# Altium schematic symbol library RBB_MCU7_V2.2.SCHLIB: 33 symbols
Pins are listed as number, name and electrical type; pins without a type are passive.

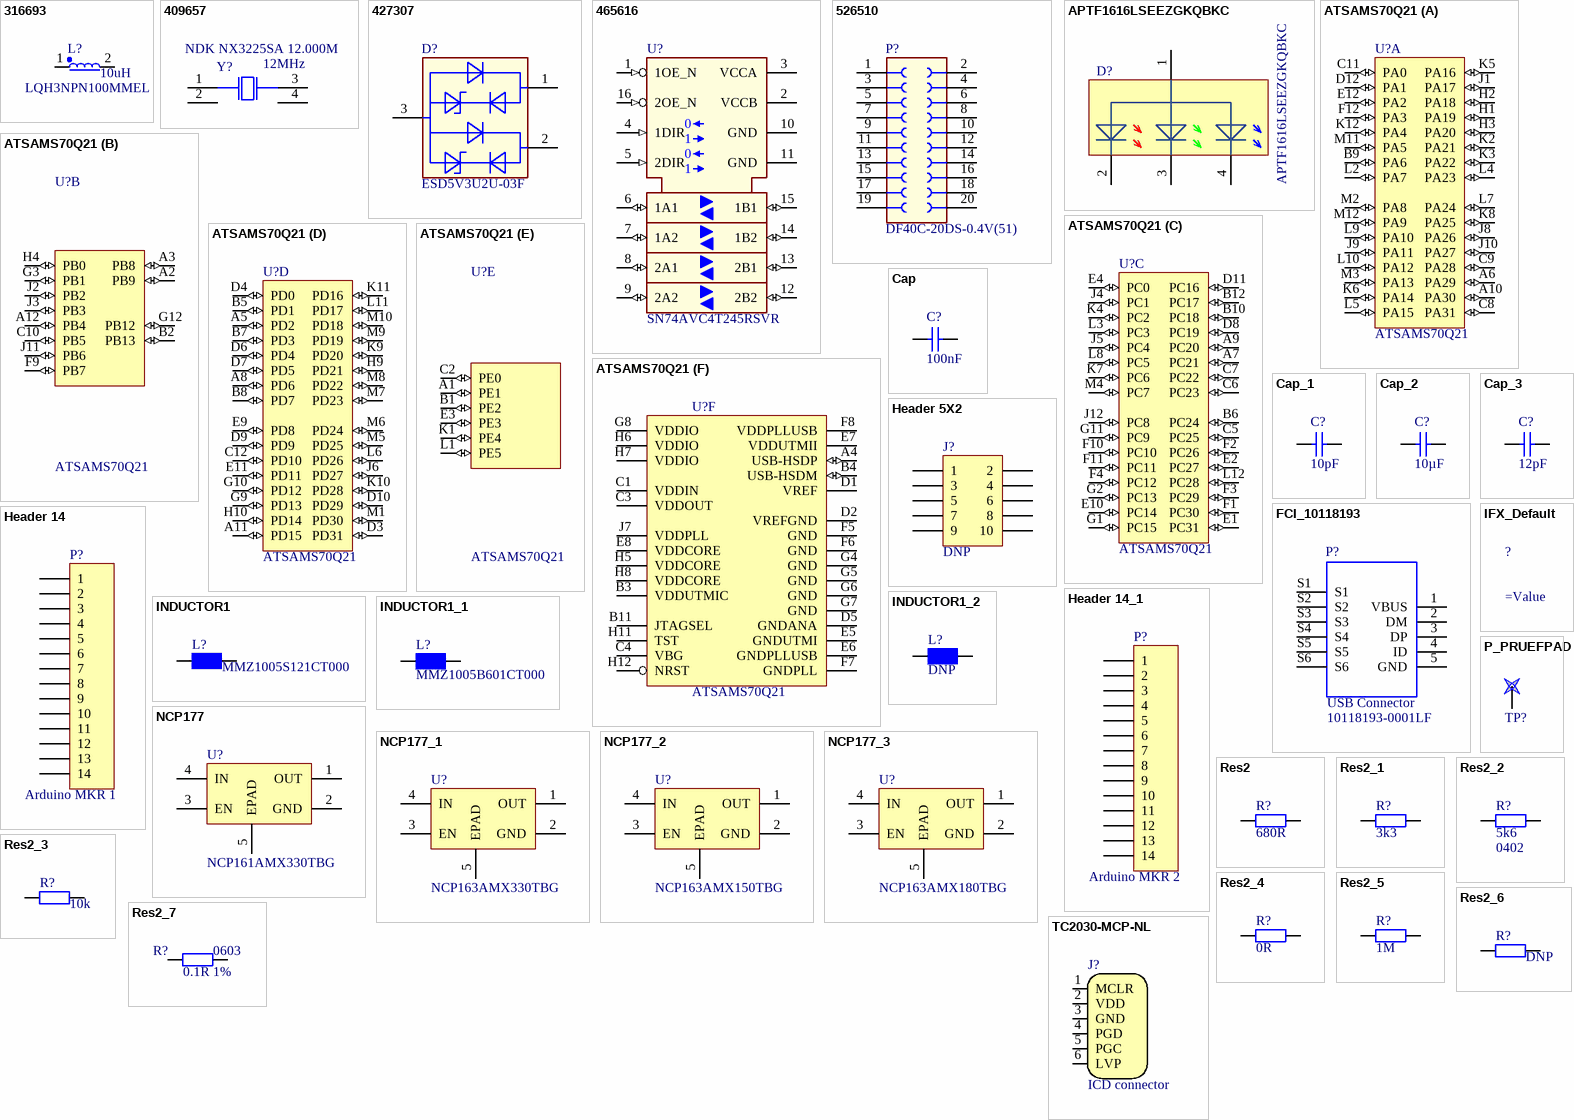
[diagram p0: symbols 316693 to TC2030-MCP-NL]

## 316693
designator L?, comment LQH3NPN100MMEL  value 10uH
for Power Line; Multiple Parts: No; Legacy PartNumber: IND00700877; Manufacturer: muRata; Manufacturer Order Number: LQH3NPN100MMR; Manufacturer Component Status: Active; Symbol Type: Inductor; Single; Standard; Polarized; Core; 2 Pins; Alternate View: Yes; Article Number: 316693; Version Number: V01; Tolerance Neg: 20%; Combined Parameters: Tol.:-20%/+20%;Rdc:252mR;Idc:1.15A;Fres:30MHz; Style: Single; Voltage DC (max): na; Legacy DeviceID: IND00700877; Part Type: Inductor; Tolerance Pos: 20%; Type: LQH3NPN100MMEL; Technology: Wire Wound; Temperature min: -40; Temperature max: 85; Temperature Range: Industrial; RoHS Compliant: Y; Automotive Qualified: No; PackageReference: 3030 (1212); ComponentLink1Description: Vendor WebSite; ComponentLink1URL: http://www.murata.com; ComponentLink2Description: Datasheet; ComponentLink2URL: http://webnetprod.muc.infineon.com/pcbportal_prod/WorkFlows/AltiumComponent/StandardDocumentation?Versionid=316694; Supplier 1: Farnell; Supplier 2: DigiKey; Supplier 3: Mouser; PLMStatus: Active; Second Source allowed: Yes; Package Description: Inductor,Chip;3.00mm L X 3.00mm W X 1.50mm H
footprint INDC3030X150N_LQH3NP_MR
pins: 1, 2
3 alternate drawings of the same symbol

## 409657
designator Y?, comment 12MHz  Legacy DeviceID: NDK NX3225SA 12.000M
SMD Crystal Unit for Automotive Application, 12.000MHz; Legacy PartNumber: IC02600619; Manufacturer: Nihon Dempa Kogyo; Manufacturer Order Number: NX3225SA-12.000M-STD-CRS-2; Manufacturer Component Status: Active; Symbol type: Standard Crystal Symbol, 4 Pins; Article Number: 409657; Version Number: V01; Tolerance Neg: 50%; Combined Parameters: Standard Standard Crystal;Tol.:-50%/+50%; Style: Standard; Automotive Qualified: AEC Q200; ComponentStatus: Released; Second Source allowed: Yes; Part Type: Clock; Value: 12MHz; Tolerance Pos: 50%; Type: Crystal; Application: Standard; Temperature min: -40; Temperature max: 125; Temperature Range: Automotive; RoHS Compliant: Y; PackageReference: SMD 3.2 x 2.5 x 0.6mm; ComponentLink1Description: Vendor WebSite; ComponentLink1URL: http://www.ndk.com/en/; ComponentLink2Description: Datasheet; ComponentLink2URL: http://webnetprod.muc.infineon.com/pcbportal_prod/WorkFlows/AltiumComponent/StandardDocumentation?Versionid=409658; Supplier 1: Farnell; Supplier 2: DigiKey; Supplier Part Number 2: 644-1128-2-ND; Supplier 3: Mouser
footprint XTAL-SMD-NX3225SA
pins: 1, 2 (power) "Ground", 3, 4 (power) "Ground"

## 427307
designator D?, comment ESD5V3U2U-03F
Ultra-Low ESD / Transient Protection Diode, Uni-Directional, VRWM 5.3V; Legacy PartNumber: IFX01400970; Manufacturer: Infineon Technologies; Manufacturer Component Status: Active; Symbol Type: 2 Lines Uni-directional Transient Voltage Suppressor Diode, 3 Pins; Alternate View: No; Article Number: 427307; Version Number: V01; Combined Parameters: Vf:-;If:-;Ur:5.3V;Ir:50nA;Pmax:-; Type: TVS Diode; Style: Single; ComponentStatus: Released; Second Source allowed: Yes; Multiple Part: No; Legacy DeviceID: IFX01400970; Part Type: Diode; Manufacturer Order Number: ESD5V3U2U-03F; Value: ESD5V3U2U-03F; Application: Protection; Temperature min: -40; Temperature max: 125; Temperature Range: Automotive; RoHS Compliant: Y; Automotive Qualified: No; PackageReference: TSFP-3-1; ComponentLink1Description: Vendor WebSite; ComponentLink1URL: https://www.infineon.com/; ComponentLink2Description: Datasheet; ComponentLink2URL: http://webnetprod.muc.infineon.com/pcbportal_prod/WorkFlows/AltiumComponent/StandardDocumentation?Versionid=427308; Supplier 1: Farnell; Supplier 2: DigiKey; Supplier Part Number 2: ESD5V3U2U03FH6327XTSA1TR-ND; Supplier 3: Mouser; Supplier Part Number 3: 726-5V3U2U03FH6327XT
footprint SOTFL40P120X59-3N-V
footprint SOTFL40P120X59-3N
pins: 1, 2, 3

## 465616
designator U?, comment SN74AVC4T245RSVR
Dual-Bit Bus Transceiver with Configurable Voltage Translation and 3-State Output; Multiple Parts: No; Legacy PartNumber: IC02601282; Manufacturer: Texas Instruments; Manufacturer Component Status: Active; Article Number: 465616; Version Number: V01; Legacy DeviceID: TI_SN74AVC4T245RSVR; Combined Parameters: Industrial Interface/Transceiver;Vdc min/max:1.2V/3.6V;Iout:50mA;Fmax:100MHz; Second Source allowed: Yes; Voltage DC (max): na; Symbol Type: Dual-Bit Bus Transceiver with Configurable Voltage Translation and 3-State Output; Alternate View: No; Part Type: Integrated Circuit; Manufacturer Order Number: SN74AVC4T245RSVR; Value: SN74AVC4T245RSVR; Type: Interface/Transceiver; Application: Industrial; Temperature min: -40; Temperature max: 85; Temperature Range: Industrial; RoHS Compliant: Y; Automotive Qualified: No; PackageReference: UQFN-16 (RSV); ComponentLink1Description: Vendor WebSite; ComponentLink1URL: http://www.ti.com; ComponentLink2Description: Datasheet; ComponentLink2URL: http://webnetprod.muc.infineon.com/pcbportal_prod/WorkFlows/AltiumComponent/StandardDocumentation?Versionid=465617; Supplier 1: Farnell; Supplier Part Number 1: 2436915; Supplier 2: DigiKey; Supplier Part Number 2: 296-24366-2-ND; Supplier 3: Mouser; Supplier Part Number 3: 595-SN74AVC4T245RSVR; PLMStatus: Active; Package Description: UQFN, 16 Pins, 2.6mm L X 1.8mm W X 0.55mm H body
footprint SN74AVC4T245RSVR-1
footprint SN74AVC4T245RSVR
footprint SN74AVC4T245RSVR-Hatvan
pins: 1 1OE_N (in) "3-state output-mode enables. Pull OE high to place ‘1’ outputs in 3-state mode. Referenced to VCCA", 2 VCCB (power) "B-port power supply voltage. 1.2 V = VCCB = 3.6 V", 3 VCCA (power) "A-port power supply voltage. 1.2 V = VCCA = 3.6 V", 4 1DIR (in) "Direction-control input for ‘1’ ports", 5 2DIR (in) "Direction-control input for ‘2’ ports", 6 1A1 (io) "Input/output 1A1. Referenced to VCCA", 7 1A2 (io) "Input/output 1A2. Referenced to VCCA", 8 2A1 (io) "Input/output 2A1. Referenced to VCCA", 9 2A2 (io) "Input/output 2A2. Referenced to VCCA", 10 GND (power) "Ground", 11 GND (power) "Ground", 12 2B2 (io) "Input/output 2B2. Referenced to VCCB", 13 2B1 (io) "Input/output 2B1. Referenced to VCCB", 14 1B2 (io) "Input/output 1B2. Referenced to VCCB", 15 1B1 (io) "Input/output 1B1. Referenced to VCCB", 16 2OE_N (in) "3-state output-mode enables. Pull OE high to place ‘2’ outputs in 3-state mode. Referenced to VCCA"
text: 0

## 526510
designator P?, comment DF40C-20DS-0.4V(51)
Board-to-FPC Connector, 0.4mm pitch, Female; Manufacturer: Hirose Connectors; Manufacturer Component Status: Active; Symbol type: Socket 10X2 pins; Article Number: 526510; Version Number: V01; Legacy DeviceID: HRS_DF40C-20DS-0.4V(51); Combined Parameters: Board-to-Board Socket (female);10x2;Mounting:SMT;Orient:0° (vertical);Shielded:No; QuickPick: 0° (vertical) / Board-to-Board; Style: FFC/FPC; Automotive Qualified: No; ComponentStatus: Released; Second Source allowed: Yes; Voltage DC (max): na; Part Type: Connector; Manufacturer Order Number: DF40C-20DS-0.4V(51); Value: DF40C-20DS-0.4V(51); Type: Board-to-Board; Temperature min: -35; Temperature max: 85; Temperature Range: Military; ROHS Compliant: Y; PackageReference: SMD; ComponentLink1Description: Vendor WebSite; ComponentLink1URL: http://www.hirose.com/; ComponentLink2Description: Datasheet; ComponentLink2URL: http://webnetprod.muc.infineon.com/PCBPortal_Prod/WorkFlows/AltiumComponent/StandardDocumentation?Versionid=526511; Supplier 1: Farnell; Supplier Part Number 1: 2427683; Supplier 2: DigiKey; Supplier Part Number 2: H11619CT-ND; Supplier 3: Mouser; Supplier Part Number 3: 798-DF40C20DS0.4V51; PLMStatus: Active; Package Description: Connector, SMD, 0.4 mm pitch, 20 pin, 6.60 mm L X 2.88 mm W X 1.60 mm H body
footprint CON-F-SMD-DF40C-20DS-0.4V(51) (Connector, SMD, 0.4 mm pitch, 20 pin, 6.60 mm L X 2.88 mm W X 1.60 mm H body)
pins: 1, 2, 3, 4, 5, 6, 7, 8, 9, 10, 11, 12, 13, 14, 15, 16, 17, 18, 19, 20

## APTF1616LSEEZGKQBKC
designator D?
Kingbright - APTF1616LSEEZGKQBKC
footprint APTF1616LSEEZGKQBKC (Kingbright - APTF1616LSEEZGKQBKC)
pins: 1, 2, 3, 4

## ATSAMS70Q21
designator U?
Value: ATSAMS70Q21
footprint LFBGA144 (BGA, 144-Leads, Body 10x10mm, Pitch 0.8mm)
footprint UFBGA144 (BGA, 144-Leads, Body 6x6mm, Pitch 0.4mm)
part A pins: A6 PA29 (io), A10 PA30 (io), B9 PA6 (io), C8 PA31 (io), C9 PA28 (io), C11 PA0 (io), D12 PA1 (io), E12 PA2 (io), F12 PA3 (io), H1 PA19 (io), H2 PA18 (io), H3 PA20 (io), J1 PA17 (io), J8 PA26 (io), J9 PA11 (io), J10 PA27 (io), K2 PA21 (io), K3 PA22 (io), K5 PA16 (io), K6 PA14 (io), K8 PA25 (io), K12 PA4 (io), L2 PA7 (io), L4 PA23 (io), L5 PA15 (io), L7 PA24 (io), L9 PA10 (io), L10 PA12 (io), M2 PA8 (io), M3 PA13 (io), M11 PA5 (io), M12 PA9 (io)
part B pins: A2 PB9 (io), A3 PB8 (io), A12 PB4 (io), B2 PB13 (io), C10 PB5 (io), F9 PB7 (io), G3 PB1 (io), G12 PB12 (io), H4 PB0 (io), J2 PB2 (io), J3 PB3 (io), J11 PB6 (io)
part C pins: A7 PC21 (io), A9 PC20 (io), B6 PC24 (io), B10 PC18 (io), B12 PC17 (io), C5 PC25 (io), C6 PC23 (io), C7 PC22 (io), D8 PC19 (io), D11 PC16 (io), E1 PC31 (io), E2 PC27 (io), E4 PC0 (io), E10 PC14 (io), F1 PC30 (io), F2 PC26 (io), F3 PC29 (io), F4 PC12 (io), F10 PC10 (io), F11 PC11 (io), G1 PC15 (io), G2 PC13 (io), G11 PC9 (io), J4 PC1 (io), J5 PC4 (io), J12 PC8 (io), K4 PC2 (io), K7 PC6 (io), L3 PC3 (io), L8 PC5 (io), L12 PC28 (io), M4 PC7 (io)
part D pins: A5 PD2 (io), A8 PD6 (io), A11 PD15 (io), B5 PD1 (io), B7 PD3 (io), B8 PD7 (io), C12 PD10 (io), D3 PD31 (io), D4 PD0 (io), D6 PD4 (io), D7 PD5 (io), D9 PD9 (io), D10 PD29 (io), E9 PD8 (io), E11 PD11 (io), G9 PD13 (io), G10 PD12 (io), H9 PD21 (io), H10 PD14 (io), J6 PD27 (io), K9 PD20 (io), K10 PD28 (io), K11 PD16 (io), L6 PD26 (io), L11 PD17 (io), M1 PD30 (io), M5 PD25 (io), M6 PD24 (io), M7 PD23 (io), M8 PD22 (io), M9 PD19 (io), M10 PD18 (io)
part E pins: A1 PE1 (io), B1 PE2 (io), C2 PE0 (io), E3 PE3 (io), K1 PE4 (io), L1 PE5 (io)
part F pins: A4 USB-HSDP (io), B3 VDDUTMIC (power), B4 USB-HSDM (io), B11 JTAGSEL (power), C1 VDDIN (power), C3 VDDOUT (power), C4 VBG (power), D1 VREF (power), D2 VREFGND (power), D5 GNDANA (power), E5 GNDUTMI (power), E6 GNDPLLUSB (power), E7 VDDUTMII (power), E8 VDDCORE (power), F5 GND (power), F6 GND (power), F7 GNDPLL (power), F8 VDDPLLUSB (power), G4 GND (power), G5 GND (power), G6 GND (power), G7 GND (power), G8 VDDIO (power), H5 VDDCORE (power), H6 VDDIO (power), H7 VDDIO (power), H8 VDDCORE (power), H11 TST (power), H12 NRST (power), J7 VDDPLL (power)

## Cap
designator C?, comment 100nF
Capacitor; Value: 0402; Published: 8-Jun-2000; LatestRevisionDate: 17-Jul-2002; LatestRevisionNote: Re-released for DXP Platform.; PackageReference: RAD-0.3; Publisher: Altium Limited; PackageDescription: Radial Cap, Thru-Hole; 2 Leads; 0.3 in Pin Spacing
footprint RAD-0.3 (Radial Cap, Thru-Hole; 2 Leads; 0.3 in Pin Spacing)
simulation model CAP (Capacitor)
signal-integrity model Cap
footprint C_0603
footprint 0603_C_Axon
footprint 0402_C_Axon
pins: 1, 2

## Cap_1
designator C?, comment 10pF
Capacitor; Value: 0402; Published: 8-Jun-2000; LatestRevisionDate: 17-Jul-2002; LatestRevisionNote: Re-released for DXP Platform.; PackageReference: RAD-0.3; Publisher: Altium Limited; PackageDescription: Radial Cap, Thru-Hole; 2 Leads; 0.3 in Pin Spacing
footprint RAD-0.3 (Radial Cap, Thru-Hole; 2 Leads; 0.3 in Pin Spacing)
simulation model CAP (Capacitor)
signal-integrity model Cap
footprint C_0603
footprint 0603_C_Axon
footprint 0402_C_Axon
pins: 1, 2

## Cap_2
designator C?, comment 10µF
Capacitor; Value: 0402; Published: 8-Jun-2000; LatestRevisionDate: 17-Jul-2002; LatestRevisionNote: Re-released for DXP Platform.; PackageReference: RAD-0.3; Publisher: Altium Limited; PackageDescription: Radial Cap, Thru-Hole; 2 Leads; 0.3 in Pin Spacing
footprint RAD-0.3 (Radial Cap, Thru-Hole; 2 Leads; 0.3 in Pin Spacing)
simulation model CAP (Capacitor)
signal-integrity model Cap
footprint C_0603
footprint 0603_C_Axon
footprint 0402_C_Axon
pins: 1, 2

## Cap_3
designator C?, comment 12pF
Capacitor; Value: 0402; Published: 8-Jun-2000; LatestRevisionDate: 17-Jul-2002; LatestRevisionNote: Re-released for DXP Platform.; PackageReference: RAD-0.3; Publisher: Altium Limited; PackageDescription: Radial Cap, Thru-Hole; 2 Leads; 0.3 in Pin Spacing
footprint RAD-0.3 (Radial Cap, Thru-Hole; 2 Leads; 0.3 in Pin Spacing)
simulation model CAP (Capacitor)
signal-integrity model Cap
footprint C_0603
footprint 0603_C_Axon
footprint 0402_C_Axon
pins: 1, 2

## FCI_10118193
designator P?, comment 10118193-0001LF  value USB Connector
USB Micro B Receptacle, Right Angle, SMD w/2 DIP Legs; Manufacturer: FCI; OrderNr: 649-10118193-0001LF; Manufacturer Part Number: 10118193-0001LF; Distributor: Mouser; ManufacturerPartNo: 10118193-0001LF; ManufacturerPartNumber: 10118193-0001LF; PackageDescription: Connector; PackageReference: USB
footprint CON_FCI_10118193
pins: 1 VBUS, 2 DM, 3 DP, 4 ID, 5 GND, S1, S2, S3, S4, S5, S6

## Header 5X2
designator J?, comment DNP
Header, 5-Pin, Dual row, SMD; Bestellnummer: FTSH-105-01-L-DV-K; Hersteller: Samtec; Notes: without Pin 7; Preis: 1.525; Distributor: Samtec; FootprintBOM: SMD; Kleinmengendistributor: Samtec; KleinmengendistributorBestellnummer: FTSH-105-01-L-DV-K
footprint Samtec FTSH-105-01-L-DV-K (SMD Header, 2x5 pin, 1.27mm pitch)
signal-integrity model Connector
footprint Samtec FTSH-105-01-L-DV-K - no3D
pins: 1, 2, 3, 4, 5, 6, 7, 8, 9, 10

## Header 14
designator P?, comment value Arduino MKR 1  (hidden comment: DNP)
Header, 14-Pin; LatestRevisionDate: 17-Jul-2002; LatestRevisionNote: Re-released for DXP Platform.; Publisher: Altium Limited
footprint HDR1X14 (Connector; Header; 14 Position)
signal-integrity model Connector
footprint HDR1X14with3D
footprint HDR1X14TOPBOTTOM
pins: 1, 2, 3, 4, 5, 6, 7, 8, 9, 10, 11, 12, 13, 14

## Header 14_1
designator P?, comment value Arduino MKR 2  (hidden comment: DNP)
Header, 14-Pin; LatestRevisionDate: 17-Jul-2002; LatestRevisionNote: Re-released for DXP Platform.; Publisher: Altium Limited
footprint HDR1X14 (Connector; Header; 14 Position)
signal-integrity model Connector
footprint HDR1X14with3D
footprint HDR1X14TOPBOTTOM
pins: 1, 2, 3, 4, 5, 6, 7, 8, 9, 10, 11, 12, 13, 14

## IFX_Default
designator ?
Infineon Default Schematic Library Template; Alternate View: Yes or No?; Symbol Type: Infineon Default Schematic Library Template (Same as Description); Multiple Parts: Yes or No?

## INDUCTOR1
designator L?, comment MMZ1005S121CT000
SMD Ferrite Bead; Preis: 0; Hersteller: Würth; FootprintBOM: 0805; Kleinmengendistributor: Digi-Key; KleinmengendistributorBestellnummer: 732-1601-1-ND
footprint 0603_L_Axon
footprint 0402_L_Axon
footprint 0805_L_Axon
pins: 1, 2

## INDUCTOR1_1
designator L?, comment MMZ1005B601CT000
SMD Ferrite Bead; Preis: 0; Hersteller: Würth; FootprintBOM: 0805; Kleinmengendistributor: Digi-Key; KleinmengendistributorBestellnummer: 732-1601-1-ND
footprint 0603_L_Axon
footprint 0402_L_Axon
footprint 0805_L_Axon
pins: 1, 2

## INDUCTOR1_2
designator L?, comment DNP
SMD Ferrite Bead; Preis: 0; Hersteller: Würth; FootprintBOM: 0805; Kleinmengendistributor: Digi-Key; KleinmengendistributorBestellnummer: 732-1601-1-ND
footprint 0603_L_Axon
footprint 0402_L_Axon
footprint 0805_L_Axon
footprint 0402_Empty_Axon
pins: 1, 2

## NCP177
designator U?, comment NCP161AMX330TBG
NCP161 - LDO 450mA, XDFN4 / ultra-low noise, high PSRR
footprint NCP177 (LDO 500mA)
footprint NCP163
pins: 1 OUT, 2 GND, 3 EN, 4 IN, 5 EPAD

## NCP177_1
designator U?, comment NCP163AMX330TBG
NCP163 - LDO 250mA, XDFN4, / ultra-low noise, high PSRR
footprint NCP177 (LDO 500mA)
footprint NCP163
pins: 1 OUT, 2 GND, 3 EN, 4 IN, 5 EPAD

## NCP177_2
designator U?, comment NCP163AMX150TBG
NCP163 - LDO 250mA, XDFN4, / ultra-low noise, high PSRR
footprint NCP177 (LDO 500mA)
footprint NCP163
pins: 1 OUT, 2 GND, 3 EN, 4 IN, 5 EPAD

## NCP177_3
designator U?, comment NCP163AMX180TBG
NCP163 - LDO 250mA, XDFN4, / ultra-low noise, high PSRR
footprint NCP177 (LDO 500mA)
footprint NCP163
pins: 1 OUT, 2 GND, 3 EN, 4 IN, 5 EPAD

## P_PRUEFPAD
designator TP?, comment Testpoint  (value not drawn)  (no BOM)
FootprintBOM: Testpoint; Preis: -
footprint PRUEFPAD
footprint PRUEFPAD_TOP
footprint PRUEFPAD_BOTTOM
footprint TP1MM
footprint TP1.5MM
pins: 1

## Res2
designator R?, comment 680R
Resistor; Value: 0402
footprint AXIAL-0.4 (Axial Device, Thru-Hole; 2 Leads; 0.4 in Pin Spacing)
simulation model RESISTOR (Resistor)
signal-integrity model Res
footprint 1608[0603] (Chip Capacitor, Body 1.6x0.8mm, IPC High Density)
footprint 0603_R_Axon
footprint 0402_R_Axon
pins: 1, 2

## Res2_1
designator R?, comment 3k3
Resistor; Value: 0402
footprint AXIAL-0.4 (Axial Device, Thru-Hole; 2 Leads; 0.4 in Pin Spacing)
simulation model RESISTOR (Resistor)
signal-integrity model Res
footprint 1608[0603] (Chip Capacitor, Body 1.6x0.8mm, IPC High Density)
footprint 0603_R_Axon
footprint 0402_R_Axon
pins: 1, 2

## Res2_2
designator R?, comment 5k6  value 0402
Resistor
footprint AXIAL-0.4 (Axial Device, Thru-Hole; 2 Leads; 0.4 in Pin Spacing)
simulation model RESISTOR (Resistor)
signal-integrity model Res
footprint 1608[0603] (Chip Capacitor, Body 1.6x0.8mm, IPC High Density)
footprint 0603_R_Axon
footprint 0402_R_Axon
pins: 1, 2

## Res2_3
designator R?, comment 10k
Resistor; Value: 0402
footprint AXIAL-0.4 (Axial Device, Thru-Hole; 2 Leads; 0.4 in Pin Spacing)
simulation model RESISTOR (Resistor)
signal-integrity model Res
footprint 1608[0603] (Chip Capacitor, Body 1.6x0.8mm, IPC High Density)
footprint 0603_R_Axon
footprint 0402_R_Axon
pins: 1, 2

## Res2_4
designator R?, comment 0R
Resistor; Value: 0402
footprint AXIAL-0.4 (Axial Device, Thru-Hole; 2 Leads; 0.4 in Pin Spacing)
simulation model RESISTOR (Resistor)
signal-integrity model Res
footprint 1608[0603] (Chip Capacitor, Body 1.6x0.8mm, IPC High Density)
footprint 0603_R_Axon
footprint 0402_R_Axon
pins: 1, 2

## Res2_5
designator R?, comment 1M
Resistor; Value: 0402
footprint AXIAL-0.4 (Axial Device, Thru-Hole; 2 Leads; 0.4 in Pin Spacing)
simulation model RESISTOR (Resistor)
signal-integrity model Res
footprint 1608[0603] (Chip Capacitor, Body 1.6x0.8mm, IPC High Density)
footprint 0603_R_Axon
footprint 0402_R_Axon
pins: 1, 2

## Res2_6
designator R?, comment DNP
Resistor; Value: 0402
footprint AXIAL-0.4 (Axial Device, Thru-Hole; 2 Leads; 0.4 in Pin Spacing)
simulation model RESISTOR (Resistor)
signal-integrity model Res
footprint 1608[0603] (Chip Capacitor, Body 1.6x0.8mm, IPC High Density)
footprint 0603_R_Axon
footprint 0402_R_Axon
footprint 0402_Empty_Axon
pins: 1, 2

## Res2_7
designator R?, comment 0.1R 1%  value 0603
Resistor; Published: 8-Jun-2000; LatestRevisionDate: 17-Jul-2002; LatestRevisionNote: Re-released for DXP Platform.; PackageReference: AXIAL-0.4; Publisher: Altium Limited; PackageDescription: Axial Device, Thru-Hole; 2 Leads; 0.4 in Pin Spacing
footprint AXIAL-0.4 (Axial Device, Thru-Hole; 2 Leads; 0.4 in Pin Spacing)
simulation model RESISTOR (Resistor)
signal-integrity model Res
footprint 1608[0603] (Chip Capacitor, Body 1.6x0.8mm, IPC High Density)
footprint 0603_R_Axon
pins: 1, 2

## TC2030-MCP-NL
designator J?, comment value ICD connector  (hidden comment: DNP)  (no BOM)
Conector par ICD
footprint TC2030-MCP-NL (Conector ICD en placa)
footprint TC2030-MCP (Conector ICD en placa)
pins: 1 MCLR, 2 VDD, 3 GND, 4 PGD, 5 PGC, 6 LVP